# Altium schematic symbol library TRIAC双向可控硅.SchLib: 1 symbol
Pins are listed as number, name and electrical type; pins without a type are passive.

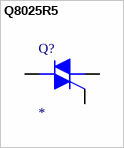
[diagram p0: symbol Q8025R5]

## Q8025R5
designator Q?
Triac
simulation model Q8025R5 (SUBCKT)
pins: 1 M1, 2 M2, 3 G
1 alternate drawing of the same symbol